# Altium schematic symbol library CDBQR42.SchLib: 1 symbol
Pins are listed as number, name and electrical type; pins without a type are passive.

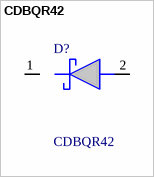
[diagram p0: symbol CDBQR42]

## CDBQR42
designator D?
Schottky Diodes & Rectifiers 200mA 30V DFN Sm. Sgnl. Schottky; Manufacturer_Name: Comchip Technology; Geometry.Height: 0.55mm; Mouser Part Number: 750-CDBQR42; Mouser Price/Stock: https://www.mouser.co.uk/ProductDetail/Comchip-Technology/CDBQR42?qs=tw%252BuQ%2FB6PO2J71PLqQTLpQ%3D%3D; Manufacturer_Part_Number: CDBQR42; Datasheet Link: https://www.comchiptech.com/admin/files/product/QW-G1101-CDBQR42-43-HF-RevA411201.pdf
footprint CDBQR42
pins: 1 K, 2 A